# EAGLE library part PIC18F45K22 (library FSAE Electric)
Microprocessor used in many places on the car View on DigiKey <http://www.digikey.com/product-detail/en/PIC18F45K22T-I%2FPT/PIC18F45K22T-I%2FPTCT-ND/5169582>
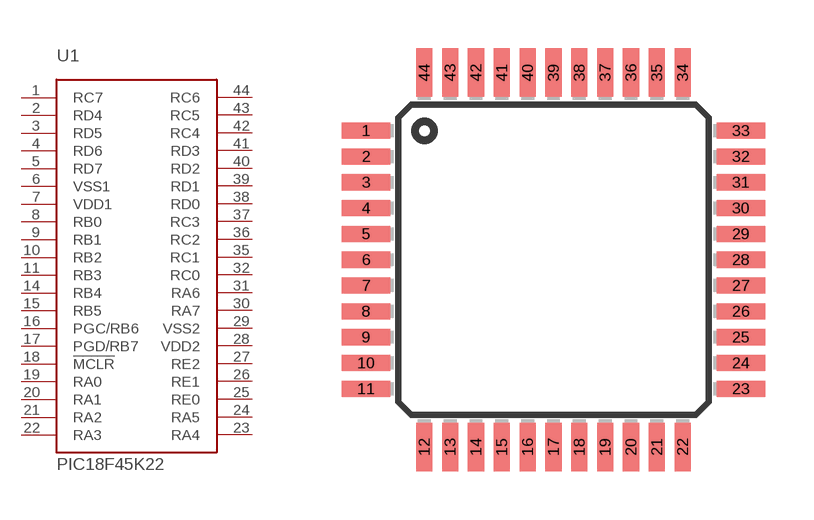
[diagram p22: symbol with the pads of TQFP-44; footprint TQFP-44]

Designator prefix U1

## PIC18F45K22 (PARTNO: PIC18F45K22T-I/PT)  [TQFP-44]
1  RC7
2  RD4
3  RD5
4  RD6
5  RD7
6  VSS1
7  VDD1
8  RB0
9  RB1
10  RB2
11  RB3
14  RB4
15  RB5
16  PGC/RB6
17  PGD/RB7
18  !MCLR
19  RA0
20  RA1
21  RA2
22  RA3
23  RA4
24  RA5
25  RE0
26  RE1
27  RE2
28  VDD2
29  VSS2
30  RA7
31  RA6
32  RC0
35  RC1
36  RC2
37  RC3
38  RD0
39  RD1
40  RD2
41  RD3
42  RC4
43  RC5
44  RC6

## Footprint TQFP-44 (pad centres in mm)
smd 1.5 x 0.5: 1 -5.8,4; 2 -5.8,3.2; 3 -5.8,2.4; 4 -5.8,1.6; 5 -5.8,0.8; 6 -5.8,0; 7 -5.8,-0.8; 8 -5.8,-1.6; 9 -5.8,-2.4; 10 -5.8,-3.2; 11 -5.8,-4; 23 5.8,-4; 24 5.8,-3.2; 25 5.8,-2.4; 26 5.8,-1.6; 27 5.8,-0.8; 28 5.8,0; 29 5.8,0.8; 30 5.8,1.6; 31 5.8,2.4; 32 5.8,3.2; 33 5.8,4
smd 0.5 x 1.5: 12 -4,-5.8; 13 -3.2,-5.8; 14 -2.4,-5.8; 15 -1.6,-5.8; 16 -0.8,-5.8; 17 0,-5.8; 18 0.8,-5.8; 19 1.6,-5.8; 20 2.4,-5.8; 21 3.2,-5.8; 22 4,-5.8; 34 4,5.8; 35 3.2,5.8; 36 2.4,5.8; 37 1.6,5.8; 38 0.8,5.8; 39 0,5.8; 40 -0.8,5.8; 41 -1.6,5.8; 42 -2.4,5.8; 43 -3.2,5.8; 44 -4,5.8